# Altium schematic symbol library C.SchLib: 64 symbols (part 1 of 2)
Pins are listed as number, name and electrical type; pins without a type are passive.

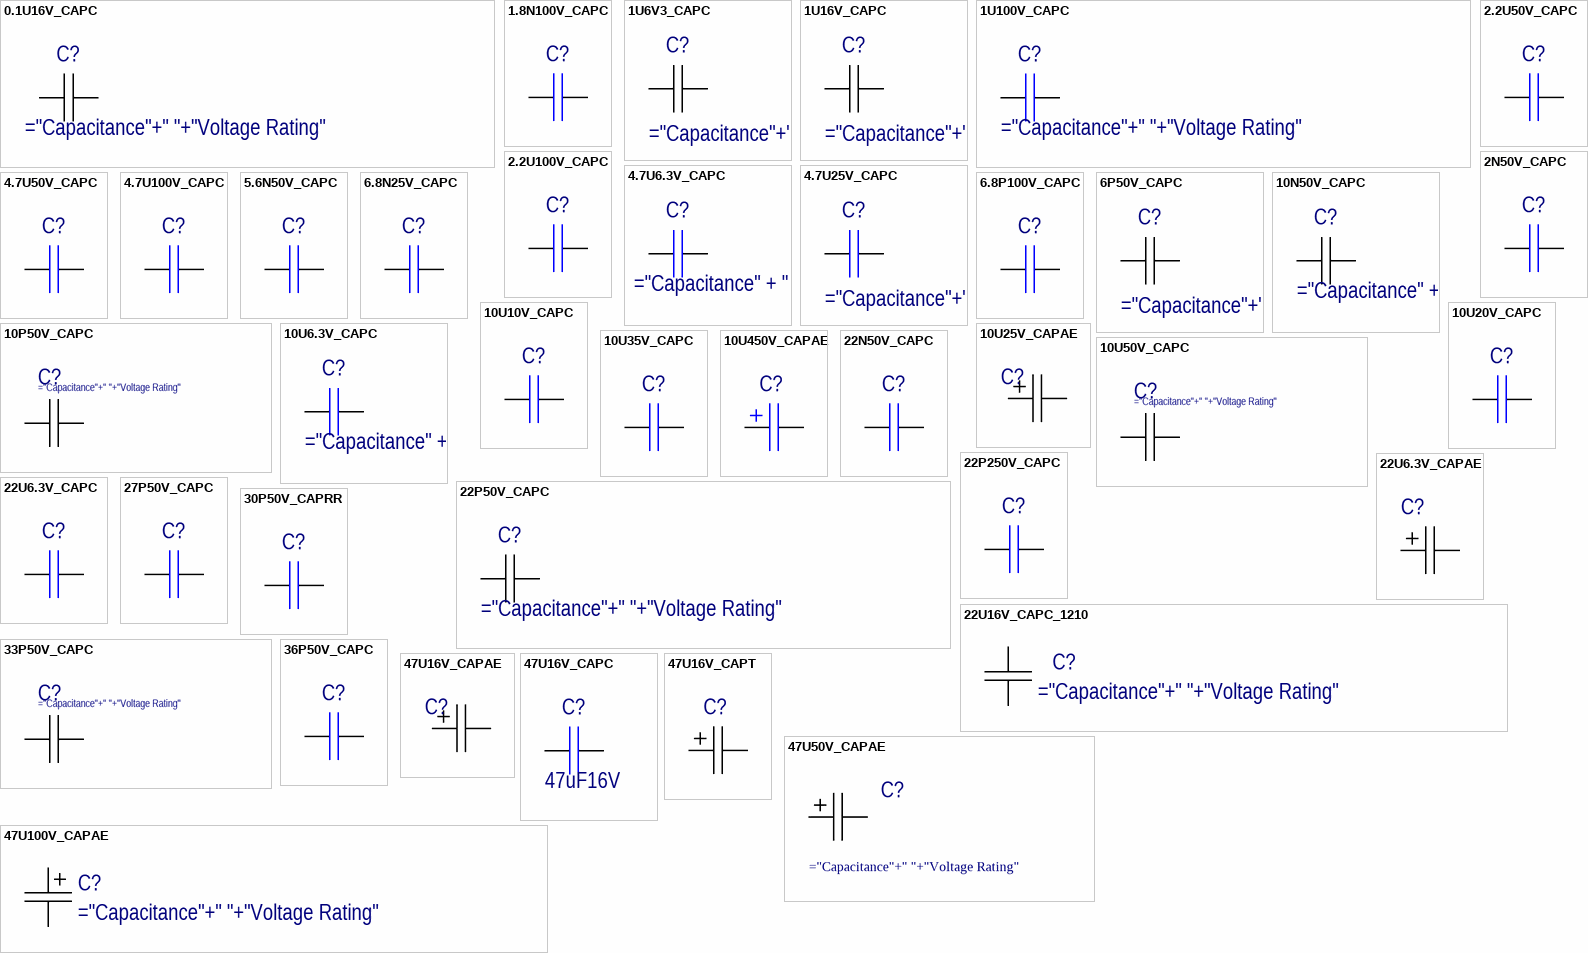
[diagram p0: symbols 0.1U16V_CAPC to 47U100V_CAPAE]

## 0.1U16V_CAPC
designator C?
CAP, MLCC, Y5V, 0.1UF, 16V, 0603; Product Range:C Series; Capacitance:0.1 F; Capacitance Tolerance:+80%, -20%; Dielectric Characteristic:Y5V; Voltage Rating:16V; Ceramic Capacitor Case:0603 [1608 Metric]; Operating Temperature ;RoHS Compliant: Yes; Manufacturer: Kemet; Manufacturer Part Number: C0603C104Z4VACTU; Capacitance: 100nF; Tolerance: 80%; SMD: 1; Supplier 1: Digi-Key; RoHS: Yes; Category: Ceramic Capacitors; Stock 1: 63761; Pricing 1: 1=0,10000, 10=0,03600, 50=0,01980, 100=0,01620, 500=0,01156, 1000=0,00908 (USD); Mount: Surface Mount,PCB; Case/Package: 0603; Number of Pins: 2; Case Code (Imperial): 0603; Case Code (Metric): 1608; Dielectric Material: Ceramic; Min Operating Temperature: -30°C; Max Operating Temperature: 85°C; Packaging: Tape and Reel; Voltage Rating (DC): 16V; Dielectric: Y5V; Package Quantity: 4000; Voltage Rating: 16V; Termination: SMD/SMT; Length: 1.6mm; Width: 0.031inch; Height: 0.8mm; Depth: 0.8mm; Thickness: 0.034inch; Lead Pitch: 0.7mm; Lead Free: Lead Free; REACH SVHC: No SVHC; ComponentLink1URL: http://www.alliedelec.com/m/d/9bfe7773041ffe9d406e68bc7b377fdd.pdf?src-supplier=Allied+Electronics; ComponentLink1Description: http://www.alliedelec.com/m/d/9bfe7773041ffe9d406e68bc7b377fdd.pdf?src-supplier=Allied+Electronics; ComponentLink2URL: http://www.farnell.com/datasheets/2745885.pdf?src-supplier=Farnell; ComponentLink2Description: http://www.farnell.com/datasheets/2745885.pdf?src-supplier=Farnell; ComponentLink3URL: http://components.arrow.com/part/dataview/0323_00314229?src-supplier=Arrow+Europe; ComponentLink3Description: http://components.arrow.com/part/dataview/0323_00314229?src-supplier=Arrow+Europe; ComponentLink4URL: http://components.arrow.com/part/dataview/2088313S2944038N7429?src-supplier=Arrow+Electronics; ComponentLink4Description: http://components.arrow.com/part/dataview/2088313S2944038N7429?src-supplier=Arrow+Electronics; ComponentLink5URL: http://www.jameco.com/Jameco/Products/ProdDS/1565089.pdf?src-supplier=Jameco; ComponentLink5Description: http://www.jameco.com/Jameco/Products/ProdDS/1565089.pdf?src-supplier=Jameco; ComponentLink6URL: http://www.mouser.com/ds/2/212/KEM_C1005_Y5V_SMD-1101305.pdf?src-supplier=Mouser; ComponentLink6Description: http://www.mouser.com/ds/2/212/KEM_C1005_Y5V_SMD-1101305.pdf?src-supplier=Mouser; ComponentLink7URL: http://www.farnell.com/datasheets/2063446.pdf?src-supplier=Element14; ComponentLink7Description: http://www.farnell.com/datasheets/2063446.pdf?src-supplier=Element14; ComponentLink8URL: https://search.kemet.com/component-edge/download/datasheet/C0603C104Z4VACTU.pdf?src-supplier=Digi-Key; ComponentLink8Description: https://search.kemet.com/component-edge/download/datasheet/C0603C104Z4VACTU.pdf?src-supplier=Digi-Key; ComponentLink9URL: https://api.kemet.com/component-edge/download/datasheet/C0603C104Z4VACTU.pdf?src-supplier=Digi-Key; ComponentLink9Description: https://api.kemet.com/component-edge/download/datasheet/C0603C104Z4VACTU.pdf?src-supplier=Digi-Key; ComponentLink10URL: http://capacitoredge.kemet.com/capedge2/DataSheet?pn=C0603C104Z4VACTU&src-supplier=Avnet; ComponentLink10Description: http://capacitoredge.kemet.com/capedge2/DataSheet?pn=C0603C104Z4VACTU&src-supplier=Avnet; ComponentLink11URL: http://www.farnell.com/datasheets/2745885.pdf?src-supplier=Newark; ComponentLink11Description: http://www.farnell.com/datasheets/2745885.pdf?src-supplier=Newark; ComponentLink12URL: http://capacitoredge.kemet.com/capedge2/DataSheet?pn=C0603C104Z4VACTU&src-supplier=Avnet+Europe; ComponentLink12Description: http://capacitoredge.kemet.com/capedge2/DataSheet?pn=C0603C104Z4VACTU&src-supplier=Avnet+Europe; Supplier Part Number 1: 399-1098-1-ND
footprint CAPC1508X09M/0603 (Chip Capacitor, 2-Leads, Body 1,55x0,80mm, IPC Low Density)
pins: 1, 2

## 1.8N100V_CAPC
designator C?
CAP CER 1800PF 100V C0G 0603; Manufacturer: Murata Electronics; Manufacturer Part Number: GRM1885C2A182JA01D; SMD: 1
footprint CAPC1508X09M/0603 (Chip Capacitor, 2-Leads, Body 1,55x0,80mm, IPC Low Density)
pins: 1, 2

## 1U6V3_CAPC
designator C?
CAP CER 1UF 6.3V X5R 10% SMD 0603 85C Paper T/R; Manufacturer: Kyocera AVX; Manufacturer Part Number: 06036D105KAT2A; Insulation Resistance: 100GR; Dissipation Factor: 5%; Supplier 1: Digi-Key; RoHS: Yes; Category: Ceramic Capacitors; Stock 1: 26488; Pricing 1: 1=0,19000, 10=0,13400, 50=0,07620, 100=0,06320, 500=0,04428, 1000=0,03666 (USD); Mount: Surface Mount,PCB; Case/Package: 0603; Number of Pins: 2; Case Code (Metric): 1608; Case Code (Imperial): 0603; Contact Plating: Tin,Matte; Min Operating Temperature: -55°C; Max Operating Temperature: 85°C; Capacitance: 1uF; Tolerance: 10%; Dielectric: X5R; Voltage Rating (DC): 6.3V; Packaging: Tape and Reel; Voltage: 6.3V; Voltage Rating: 6.3V; Package Quantity: 1; Termination: SMD/SMT; Length: 1.6mm; Width: 0.032inch; Height: 0.9mm; Depth: 0.81mm; Thickness: 0.035inch; Radiation Hardening: No; REACH SVHC: No SVHC; Lead Free: Lead Free; ComponentLink1URL: https://datasheet.ciiva.com/11787/0900766b80def1a5-11787046.pdf?src-supplier=RSComponents; ComponentLink1Description: https://datasheet.ciiva.com/11787/0900766b80def1a5-11787046.pdf?src-supplier=RSComponents; ComponentLink2URL: https://datasheet.ciiva.com/1458/84508-1458115.pdf?src-supplier=Element14; ComponentLink2Description: https://datasheet.ciiva.com/1458/84508-1458115.pdf?src-supplier=Element14; ComponentLink3URL: https://datasheet.ciiva.com/1458/84508-1458116.pdf?src-supplier=Element14; ComponentLink3Description: https://datasheet.ciiva.com/1458/84508-1458116.pdf?src-supplier=Element14; ComponentLink4URL: https://datasheet.ciiva.com/2987/cx5r-2987864.pdf?src-supplier=Avnet; ComponentLink4Description: https://datasheet.ciiva.com/2987/cx5r-2987864.pdf?src-supplier=Avnet; ComponentLink5URL: https://datasheet.ciiva.com/150/cx5r-150425.pdf?src-supplier=Digi-Key; ComponentLink5Description: https://datasheet.ciiva.com/150/cx5r-150425.pdf?src-supplier=Digi-Key; ComponentLink6URL: https://datasheet.ciiva.com/150/cx5r-150426.pdf?src-supplier=Digi-Key; ComponentLink6Description: https://datasheet.ciiva.com/150/cx5r-150426.pdf?src-supplier=Digi-Key; ComponentLink7URL: https://datasheet.ciiva.com/5412/cx5r-5412794.pdf?src-supplier=Mouser; ComponentLink7Description: https://datasheet.ciiva.com/5412/cx5r-5412794.pdf?src-supplier=Mouser; ComponentLink8URL: https://datasheet.ciiva.com/14603/70001028-14603850.pdf?src-supplier=Allied+Electronics; ComponentLink8Description: https://datasheet.ciiva.com/14603/70001028-14603850.pdf?src-supplier=Allied+Electronics; ComponentLink9URL: https://datasheet.ciiva.com/150/cx5r-150427.pdf?src-supplier=Digi-Key; ComponentLink9Description: https://datasheet.ciiva.com/150/cx5r-150427.pdf?src-supplier=Digi-Key; ComponentLink10URL: https://datasheet.ciiva.com/7855/1666675-7855100.pdf?src-supplier=Element14; ComponentLink10Description: https://datasheet.ciiva.com/7855/1666675-7855100.pdf?src-supplier=Element14; ComponentLink11URL: https://datasheet.ciiva.com/16326/cx5r-16326991.pdf?src-supplier=Future+Electronics; ComponentLink11Description: https://datasheet.ciiva.com/16326/cx5r-16326991.pdf?src-supplier=Future+Electronics; Supplier Part Number 1: 478-2581-1-ND
footprint CAPC1508X09M/0603 (Chip Capacitor, 2-Leads, Body 1,55x0,80mm, IPC Low Density)
pins: 1, 2

## 1U16V_CAPC
designator C?
CAP CER 1UF 16V X7R 0805; Manufacturer: Samsung; Manufacturer Part Number: CL21B105KOFNNNG; Material: Ceramic; Tolerance: 10%; Supplier 1: Digi-Key; RoHS: Yes; Category: Ceramic Capacitors; Stock 1: 426744; Pricing 1: 1=0,10000, 10=0,05500, 50=0,02980, 100=0,02430, 500=0,01736, 1000=0,01364 (USD); Mount: Surface Mount; Case/Package: 0805; Case Code (Imperial): 0805; Case Code (Metric): 2012; Min Operating Temperature: -55°C; Max Operating Temperature: 125°C; Dielectric: X7R; Package Quantity: 3000; Packaging: Tape and Reel; Capacitance: 1uF; Voltage Rating: 16V; Voltage: 16V; Length: 2mm; Width: 0.049inch; Height: 1.25mm; Thickness: 0.053inch; Depth: 1.25mm; Lead Free: Lead Free; ComponentLink1URL: https://datasheet.ciiva.com/25733/cl21b105kofnnng-25733281.pdf?src-supplier=Digi-Key; ComponentLink1Description: https://datasheet.ciiva.com/25733/cl21b105kofnnng-25733281.pdf?src-supplier=Digi-Key; ComponentLink2URL: https://datasheet.ciiva.com/29199/455935-da-01-en-vs-kondensator-0805-29199047.pdf?src-supplier=Conrad; ComponentLink2Description: https://datasheet.ciiva.com/29199/455935-da-01-en-vs-kondensator-0805-29199047.pdf?src-supplier=Conrad; ComponentLink3URL: https://datasheet.ciiva.com/16428/cl05b104kq5nnnc-16428885.pdf?src-supplier=Future+Electronics; ComponentLink3Description: https://datasheet.ciiva.com/16428/cl05b104kq5nnnc-16428885.pdf?src-supplier=Future+Electronics; ComponentLink4URL: https://datasheet.ciiva.com/26310/mlcc-catalogdownload2013-eng-26310156.pdf?src-supplier=Distrelec; ComponentLink4Description: https://datasheet.ciiva.com/26310/mlcc-catalogdownload2013-eng-26310156.pdf?src-supplier=Distrelec; Supplier Part Number 1: 1276-6471-1-ND
footprint CAPC2012X14M/0805 (Chip Capacitor, 2-Leads, Body 2,00x1,25mm, IPC Low Density)
pins: 1, 2

## 1U100V_CAPC
designator C?
CAP CER 1UF 100V X7R 1206; Manufacturer: Samsung; Manufacturer Part Number: CL31B105KCHNNNE; Tolerance: 10%; Case/Package: 1206; Capacitance: 1uF; Dielectric: X7R; Height: 1.6mm; Max Operating Temperature: 125°C; Min Operating Temperature: -55°C; Voltage Rating: 100V
footprint CAPC3216X14N/1206 (Chip Capacitor, 2-Leads, Body 3,20x1,60mm, IPC Medium Density)
pins: 1, 2

## 2.2U50V_CAPC
designator C?
CAP CER 2.2UF 50V X5R 0603; Manufacturer: Murata Electronics North America; Manufacturer Part Number: GRT188R61H225ME13D; SMD: 1
footprint CAPC1508X09M/0603 (Chip Capacitor, 2-Leads, Body 1,55x0,80mm, IPC Low Density)
pins: 1, 2

## 2.2U100V_CAPC
designator C?
CAP CER 2.2UF 100V X7S 1206; Manufacturer: TDK; Manufacturer Part Number: C3216X7S2A225M160AB; SMD: 1
footprint CAPC3216X14N/1206 (Chip Capacitor, 2-Leads, Body 3,20x1,60mm, IPC Medium Density)
pins: 1, 2

## 2N50V_CAPC
designator C?
CAP CER 2NF 50V X7R 0603; Manufacturer: Murata; Manufacturer Part Number: GRM1885C1H202JA01D; SMD: 1
footprint CAPC1508X09M/0603 (Chip Capacitor, 2-Leads, Body 1,55x0,80mm, IPC Low Density)
pins: 1, 2

## 4.7U6.3V_CAPC
designator C?
CAP CER 4.7UF 6.3V X5R 20% SMD 0603 85C Paper T/R; Manufacturer: Samsung Electro-Mechanics; Manufacturer Part Number: CL10A475MQ8NNNC; SMD: 1; Supplier 1: Digi-Key; RoHS: Yes; Category: Ceramic Capacitors; Stock 1: 160614; Pricing 1: 1=0,10000, 10=0,04700, 50=0,02540, 100=0,02080, 500=0,01482, 1000=0,01165 (USD); Mount: Surface Mount; Case/Package: 0603; Case Code (Metric): 1608; Case Code (Imperial): 0603; Min Operating Temperature: -55°C; Max Operating Temperature: 85°C; Capacitance: 4.7uF; Tolerance: 20%; Dielectric: X5R; Packaging: Tape and Reel; Package Quantity: 4000; Voltage Rating: 6.3V; Voltage Rating (DC): 6.3V; Series: CL; Construction: Flat; Length: 1.6mm; Width: 0.031inch; Height: 0.8mm; Thickness: 0.035inch; Depth: 0.8mm; Radiation Hardening: No; Lead Free: Lead Free; RoHS Compliant: Yes; ComponentLink1URL: https://datasheet.ciiva.com/25713/cl10a475mq8nnnc-25713301.pdf?src-supplier=Digi-Key; ComponentLink1Description: https://datasheet.ciiva.com/25713/cl10a475mq8nnnc-25713301.pdf?src-supplier=Digi-Key; ComponentLink2URL: https://datasheet.ciiva.com/26838/getdatasheetpartid-358407-26838391.pdf?src-supplier=Verical; ComponentLink2Description: https://datasheet.ciiva.com/26838/getdatasheetpartid-358407-26838391.pdf?src-supplier=Verical; ComponentLink3URL: https://datasheet.ciiva.com/16437/cl05b104kq5nnnc-16437323.pdf?src-supplier=Future+Electronics; ComponentLink3Description: https://datasheet.ciiva.com/16437/cl05b104kq5nnnc-16437323.pdf?src-supplier=Future+Electronics; Supplier Part Number 1: 1276-1907-1-ND
footprint CAPC1508X09M/0603 (Chip Capacitor, 2-Leads, Body 1,55x0,80mm, IPC Low Density)
pins: 1, 2

## 4.7U25V_CAPC
designator C?
CAP CER 4.7UF 25V X5R 0603; Manufacturer: Samsung; Manufacturer Part Number: CL10A475KA8NQNC; SMD: 1; Capacitance: 4.7uF; Case Code (Imperial): 0603; Case/Package: 0603; Dielectric: X5R; Max Operating Temperature: 85°C; Min Operating Temperature: -55°C; Mount: Surface Mount; Voltage Rating: 25V
footprint CAPC1508X09M/0603 (Chip Capacitor, 2-Leads, Body 1,55x0,80mm, IPC Low Density)
pins: 1, 2

## 4.7U50V_CAPC
designator C?
CAP CER 4.7UF 50V X5R 0805; Manufacturer: TDK; Manufacturer Part Number: C2012X5R1H475K125AB; SMD: 1
footprint CAPC2012X14M/0805 (Chip Capacitor, 2-Leads, Body 2,00x1,25mm, IPC Low Density)
pins: 1, 2

## 4.7U100V_CAPC
designator C?
CAP CER 4.7UF 100V X7R 1210; Manufacturer: AVX; Manufacturer Part Number: 12101C475K4T2A; SMD: 1
footprint CAPC3225X27M/1210 (Chip Capacitor, 2-Leads, Body 3,20x2,50mm, IPC Low Density)
pins: 1, 2

## 5.6N50V_CAPC
designator C?
CAP CER 5.6NF 50V C0G/NP0 0805; Manufacturer: TDK; Manufacturer Part Number: CGA4C2C0G1H562J060AA; SMD: 1
footprint CAPC2012X14M/0805 (Chip Capacitor, 2-Leads, Body 2,00x1,25mm, IPC Low Density)
pins: 1, 2

## 6.8N25V_CAPC
designator C?
CAP CER 6800PF 25V C0G/NP0 0603; Manufacturer: KEMET; Manufacturer Part Number: C0603C682F3GACTU; SMD: 1
footprint CAPC1508X09M/0603 (Chip Capacitor, 2-Leads, Body 1,55x0,80mm, IPC Low Density)
pins: 1, 2

## 6.8P100V_CAPC
designator C?
CAP CER 6.8PF 100V C0G/NP0 0603; Manufacturer: Yageo; Manufacturer Part Number: CC0603CRNPO0BN6R8; SMD: 1
footprint CAPC1508X09M/0603 (Chip Capacitor, 2-Leads, Body 1,55x0,80mm, IPC Low Density)
pins: 1, 2

## 6P50V_CAPC
designator C?
CAP CER 6PF 50V C0G/NP0 0603; Manufacturer: Samsung Electro-Mechanics; Manufacturer Part Number: CL10C060DB8NNNC; Dielectric: C0G; SMD: 1; Supplier 1: Digi-Key; RoHS: Yes; Category: Ceramic Capacitors; Stock 1: 216890; Pricing 1: 1=0,10000, 10=0,03500, 50=0,01900, 100=0,01560, 500=0,01112, 1000=0,00874 (USD); Mount: Surface Mount; Case/Package: 0603; Case Code (Metric): 1608; Case Code (Imperial): 0603; Min Operating Temperature: -55°C; Max Operating Temperature: 125°C; Capacitance: 6pF; Packaging: Tape and Reel; Voltage Rating: 50V; Length: 1.6mm; Width: 0.031inch; Height: 0.8mm; Thickness: 0.035inch; Depth: 0.8mm; Radiation Hardening: No; Supplier 2: Digi-Key; Supplier Part Number 2: 1276-2134-1-ND
footprint CAPC1508X09M/0603 (Chip Capacitor, 2-Leads, Body 1,55x0,80mm, IPC Low Density)
pins: 1, 2

## 10N50V_CAPC
designator C?
CAP CER 10000PF 50V X7R 0603; Manufacturer: KEMET; Manufacturer Part Number: C0603C103M5RACTU; Dielectric Material: Ceramic; Capacitance: 10nF; Tolerance: 20%; Dissipation Factor: 2.5%; SMD: 1; Supplier 1: Digi-Key; RoHS: Yes; Category: Ceramic Capacitors; Stock 1: 502155; Pricing 1: 1=0,10000, 10=0,03000, 50=0,01640, 100=0,01350, 500=0,00962, 1000=0,00756 (USD); Mount: Surface Mount,PCB; Case/Package: 0603; Number of Pins: 2; Case Code (Imperial): 0603; Case Code (Metric): 1608; Min Operating Temperature: -55°C; Max Operating Temperature: 125°C; Package Quantity: 1; Packaging: Tape and Reel; Voltage Rating: 50V; Voltage Rating (DC): 50V; Dielectric: X7R; Termination: SMD/SMT; Series: C; Construction: Flat; Length: 1.6mm; Width: 0.8mm; Height: 0.8mm; Lead Pitch: 0.7mm; Thickness: 0.034inch; Depth: 0.8mm; Radiation Hardening: No; REACH SVHC: No SVHC; RoHS Compliant: Yes; ComponentLink1URL: https://datasheet.ciiva.com/7823/kem-c1002-x7r-smd-7823979.pdf?src-supplier=Element14; ComponentLink1Description: https://datasheet.ciiva.com/7823/kem-c1002-x7r-smd-7823979.pdf?src-supplier=Element14; ComponentLink2URL: https://datasheet.ciiva.com/7823/kem-c1002-x7r-smd-7823980.pdf?src-supplier=Element14; ComponentLink2Description: https://datasheet.ciiva.com/7823/kem-c1002-x7r-smd-7823980.pdf?src-supplier=Element14; Supplier Part Number 1: 399-7842-1-ND
footprint CAPC1508X09M/0603 (Chip Capacitor, 2-Leads, Body 1,55x0,80mm, IPC Low Density)
pins: 1, 2

## 10P50V_CAPC
designator C?
CAP CER 10PF 50V C0G/NP0 0603; Manufacturer: Wurth Electronics; Manufacturer Part Number: 885012006051; Dielectric: C0G; Tolerance: 5%; Supplier 1: Digi-Key; RoHS: Yes; Category: Ceramic Capacitors; Stock 1: 5933; Pricing 1: 1=0,10000, 10=0,02600, 100=0,02330, 500=0,02060 (USD); Mount: Surface Mount; Case/Package: 0603; Case Code (Metric): 1608; Case Code (Imperial): 0603; Min Operating Temperature: -55°C; Max Operating Temperature: 125°C; Packaging: Cut Tape; Capacitance: 10pF; Voltage Rating: 50V; Voltage Rating (DC): 50V; Length: 0.063inch; Width: 0.031inch; Thickness: 0.034inch; REACH SVHC: Unknown; RoHS Compliant: Yes; ComponentLink1URL: http://www.farnell.com/datasheets/1958434.pdf?src-supplier=Farnell; ComponentLink1Description: http://www.farnell.com/datasheets/1958434.pdf?src-supplier=Farnell; ComponentLink2URL: http://www.farnell.com/datasheets/1958434.pdf?src-supplier=Element14; ComponentLink2Description: http://www.farnell.com/datasheets/1958434.pdf?src-supplier=Element14; ComponentLink3URL: https://katalog.we-online.de/pbs/datasheet/885012006051.pdf?src-supplier=Digi-Key; ComponentLink3Description: https://katalog.we-online.de/pbs/datasheet/885012006051.pdf?src-supplier=Digi-Key; ComponentLink4URL: http://www.farnell.com/datasheets/1958434.pdf?src-supplier=Newark; ComponentLink4Description: http://www.farnell.com/datasheets/1958434.pdf?src-supplier=Newark; Supplier Part Number 1: 732-7793-1-ND
footprint CAPC1508X09M/0603 (Chip Capacitor, 2-Leads, Body 1,55x0,80mm, IPC Low Density)
pins: 1, 2

## 10U6.3V_CAPC
designator C?
CAP CER 10UF 6.3V X5R 0603; Manufacturer: Murata Electronics; Manufacturer Part Number: GRM188R60J106KE47D; Material: Ceramic; Tolerance: 10%; SMD: 1; Supplier 1: Digi-Key; RoHS: Yes; Category: Ceramic Capacitors; Stock 1: 97709; Pricing 1: 1=0,20000, 10=0,13900, 50=0,07920, 100=0,06560, 500=0,04596, 1000=0,03805 (USD); Mount: Surface Mount; Case/Package: 0603; Case Code (Metric): 1608; Case Code (Imperial): 0603; Weight: 0.000222oz; Min Operating Temperature: -55°C; Max Operating Temperature: 85°C; Packaging: Tape and Reel; Dielectric: X5R; Capacitance: 10uF; Voltage Rating: 6.3V; Termination: SMD/SMT; Voltage Rating (DC): 6.3V; Package Quantity: 4000; Length: 1.6mm; Width: 0.031inch; Height: 0.8mm; Thickness: 0.035inch; Depth: 0.8mm; REACH SVHC: No SVHC; RoHS Compliant: Yes; ComponentLink1URL: http://components.arrow.com/part/dataview/0323_06977919?src-supplier=Arrow+Europe; ComponentLink1Description: http://components.arrow.com/part/dataview/0323_06977919?src-supplier=Arrow+Europe; ComponentLink2URL: http://www.farnell.com/datasheets/1955679.pdf?src-supplier=Farnell; ComponentLink2Description: http://www.farnell.com/datasheets/1955679.pdf?src-supplier=Farnell; ComponentLink3URL: http://www.mouser.com/ds/2/281/c02e-2905.pdf?src-supplier=Mouser; ComponentLink3Description: http://www.mouser.com/ds/2/281/c02e-2905.pdf?src-supplier=Mouser; ComponentLink4URL: http://search.murata.co.jp/Ceramy/image/img/A01X/G101/ENG/GRM188R60J106KE47-02.pdf?src-supplier=Digi-Key; ComponentLink4Description: http://search.murata.co.jp/Ceramy/image/img/A01X/G101/ENG/GRM188R60J106KE47-02.pdf?src-supplier=Digi-Key; ComponentLink5URL: http://www.farnell.com/datasheets/1955679.pdf?src-supplier=Newark; ComponentLink5Description: http://www.farnell.com/datasheets/1955679.pdf?src-supplier=Newark; ComponentLink6URL: http://www.farnell.com/datasheets/1955679.pdf?src-supplier=Element14; ComponentLink6Description: http://www.farnell.com/datasheets/1955679.pdf?src-supplier=Element14; ComponentLink7URL: http://psearch.en.murata.com/capacitor/product/GRM188R60J106KE47%23.pdf?src-supplier=Avnet; ComponentLink7Description: http://psearch.en.murata.com/capacitor/product/GRM188R60J106KE47%23.pdf?src-supplier=Avnet; Supplier Part Number 1: 490-12538-1-ND
footprint CAPC1508X09M/0603 (Chip Capacitor, 2-Leads, Body 1,55x0,80mm, IPC Low Density)
pins: 1, 2

## 10U10V_CAPC
designator C?
CAP CER 10UF 10V X5R 0805; Manufacturer: Samsung Electro-Mechanics; Manufacturer Part Number: CL21A106KPFNNNG; SMD: 1
footprint CAPC2012X14M/0805 (Chip Capacitor, 2-Leads, Body 2,00x1,25mm, IPC Low Density)
pins: 1, 2

## 10U20V_CAPC
designator C?
CAP CER 10UF 20V X5R 0805; Manufacturer: Murata Electronics North America; Manufacturer Part Number: GRM21BR61D106ME15L; SMD: 1
footprint CAPC2012X14M/0805 (Chip Capacitor, 2-Leads, Body 2,00x1,25mm, IPC Low Density)
pins: 1, 2

## 10U25V_CAPAE
designator C?
CAP ALUM 10UF 20% 25V RADIAL; Manufacturer: Panasonic; Manufacturer Part Number: ECA-1EM100B; TH: 1
footprint CAPAE500X1200
pins: 1, 2

## 10U35V_CAPC
designator C?
CAP CER 10UF 35V X6S 1206; Manufacturer: TDK; Manufacturer Part Number: C3216X6S1V106K160AC; SMD: 1
footprint CAPC3216X14N/1206 (Chip Capacitor, 2-Leads, Body 3,20x1,60mm, IPC Medium Density)
pins: 1, 2

## 10U50V_CAPC
designator C?
CAP CER 10UF 50V X5R 1206; Manufacturer: Samsung; Manufacturer Part Number: CL31A106KBHNNNE; Material: Ceramic; Tolerance: 10%; Supplier 1: Digi-Key; RoHS: Yes; Category: Ceramic Capacitors; Stock 1: 1868910; Pricing 1: 1=0,34000, 10=0,23500, 50=0,16460, 100=0,14100, 500=0,10578, 1000=0,08933 (USD); Mount: Surface Mount; Case/Package: 1206; Case Code (Metric): 3216; Case Code (Imperial): 1206; Contact Plating: Tin; Min Operating Temperature: -55°C; Max Operating Temperature: 85°C; Capacitance: 10uF; Package Quantity: 1; Packaging: Tape and Reel; Voltage Rating: 50V; Dielectric: X5R; Voltage Rating (DC): 50V; Series: CL; Construction: Flat; Length: 3.2mm; Width: 0.063inch; Height: 1.6mm; Thickness: 0.071inch; Depth: 1.6mm; Radiation Hardening: No; Lead Free: Lead Free; RoHS Compliant: Yes; ComponentLink1URL: https://datasheet.ciiva.com/25726/cl31a106kbhnnne-25726404.pdf?src-supplier=Digi-Key; ComponentLink1Description: https://datasheet.ciiva.com/25726/cl31a106kbhnnne-25726404.pdf?src-supplier=Digi-Key; ComponentLink2URL: https://datasheet.ciiva.com/15216/getdatasheetpartid-353196-15216238.pdf?src-supplier=Verical; ComponentLink2Description: https://datasheet.ciiva.com/15216/getdatasheetpartid-353196-15216238.pdf?src-supplier=Verical; ComponentLink3URL: https://datasheet.ciiva.com/29201/452492-da-01-en-vs-kondensator-1206-29201107.pdf?src-supplier=Conrad; ComponentLink3Description: https://datasheet.ciiva.com/29201/452492-da-01-en-vs-kondensator-1206-29201107.pdf?src-supplier=Conrad; ComponentLink4URL: https://datasheet.ciiva.com/16437/cl05b104kq5nnnc-16437222.pdf?src-supplier=Future+Electronics; ComponentLink4Description: https://datasheet.ciiva.com/16437/cl05b104kq5nnnc-16437222.pdf?src-supplier=Future+Electronics; ComponentLink5URL: https://datasheet.ciiva.com/20173/71-0881-20173082.pdf?src-supplier=Rapid+Electronics; ComponentLink5Description: https://datasheet.ciiva.com/20173/71-0881-20173082.pdf?src-supplier=Rapid+Electronics; Supplier Part Number 1: 1276-2876-1-ND
footprint CAPC3216X14N/1206 (Chip Capacitor, 2-Leads, Body 3,20x1,60mm, IPC Medium Density)
pins: 1, 2

## 10U450V_CAPAE
designator C?
CAP ALUM 10UF 20% 450V T/H; Manufacturer: Rubycon; Manufacturer Part Number: 450BXW10MEFR10X16; SMD: 1
footprint CAPAE1000X1800
pins: 1, 2

## 22N50V_CAPC
designator C?
CAP CER 0.022UF 50V X7R 0603; Manufacturer: Samsung Electro-Mechanics; Manufacturer Part Number: CL10B223KB8NNND; SMD: 1
footprint CAPC1508X09M/0603 (Chip Capacitor, 2-Leads, Body 1,55x0,80mm, IPC Low Density)
pins: 1, 2

## 22P50V_CAPC
designator C?
CAP CER 22PF 50V NPO 0603; Manufacturer: Yageo; Manufacturer Part Number: AC0603JRNPO9BN220; Tolerance: 5%; SMD: 1; Supplier 1: Digi-Key; RoHS: No; Category: Ceramic Capacitors; Stock 1: 109611; Pricing 1: 1=0,11000, 10=0,07800, 50=0,04260, 100=0,03480, 500=0,02488, 1000=0,01955 (USD); Mount: Surface Mount; Case/Package: 0603; Case Code (Imperial): 0603; Case Code (Metric): 1608; Min Operating Temperature: -55°C; Max Operating Temperature: 125°C; Packaging: Cut Tape; Capacitance: 22pF; Voltage Rating: 50V; Ratings: AEC-Q200; ComponentLink1URL: http://www.yageo.com/NewPortal/_en/search/productDocs.jsp?YageoPartNumber=AC0603JRNPO9BN220&src-supplier=Digi-Key; ComponentLink1Description: http://www.yageo.com/NewPortal/_en/search/productDocs.jsp?YageoPartNumber=AC0603JRNPO9BN220&src-supplier=Digi-Key; Supplier Part Number 1: 311-3090-1-ND
footprint CAPC1508X09M/0603 (Chip Capacitor, 2-Leads, Body 1,55x0,80mm, IPC Low Density)
pins: 1, 2

## 22P250V_CAPC
designator C?
CAP CER 22PF 250V C0G/NP0 0805; Manufacturer: Murata Manufacturing; Manufacturer Part Number: GRM21A5C2E220JW01; SMD: 1
footprint CAPC2012X14M/0805 (Chip Capacitor, 2-Leads, Body 2,00x1,25mm, IPC Low Density)
pins: 1, 2

## 22U6.3V_CAPAE
designator C?
CAP ALUM 22UF 20% 6.3V RADIAL; Manufacturer: Rubycon; Manufacturer Part Number: 6.3TWL22MEFC4X7; TH: 1
footprint CAPAE400X800
pins: 1, 2

## 22U6.3V_CAPC
designator C?
CAP CER 22UF 6.3V X5R 0603; Manufacturer: Murata Electronics North America; Manufacturer Part Number: GRM188R60J226MEA0J; SMD: 1
footprint CAPC1508X09M/0603 (Chip Capacitor, 2-Leads, Body 1,55x0,80mm, IPC Low Density)
pins: 1, 2

## 22U16V_CAPC_1210
designator C?
CAP CER 22UF 16V X5R 1210; Manufacturer: Samsung; Manufacturer Part Number: CL32A226MOJNNNE; Tolerance: 20%; Supplier 1: Digi-Key; RoHS: Yes; Category: Ceramic Capacitors; Stock 1: 47696; Pricing 1: 1=0,37000, 10=0,25700, 50=0,18000, 100=0,15430, 500=0,11570 (USD); Mount: Surface Mount; Case/Package: 1210; Case Code (Metric): 3225; Case Code (Imperial): 1210; Min Operating Temperature: -55°C; Max Operating Temperature: 85°C; Capacitance: 22uF; Dielectric: X5R; Packaging: Tape and Reel; Voltage Rating: 16V; Voltage Rating (DC): 16V; Series: CL; Construction: Flat; Length: 3.2mm; Width: 0.098inch; Height: 2.5mm; Thickness: 0.106inch; Depth: 2.5mm; Radiation Hardening: No; Lead Free: Lead Free; RoHS Compliant: Yes; ComponentLink1URL: https://datasheet.ciiva.com/26947/getdatasheetpartid-355241-26947026.pdf?src-supplier=Verical; ComponentLink1Description: https://datasheet.ciiva.com/26947/getdatasheetpartid-355241-26947026.pdf?src-supplier=Verical; ComponentLink2URL: https://datasheet.ciiva.com/25711/cl32a226mojnnne-25711415.pdf?src-supplier=Digi-Key; ComponentLink2Description: https://datasheet.ciiva.com/25711/cl32a226mojnnne-25711415.pdf?src-supplier=Digi-Key; ComponentLink3URL: https://datasheet.ciiva.com/16374/cl05b104kq5nnnc-16374666.pdf?src-supplier=Future+Electronics; ComponentLink3Description: https://datasheet.ciiva.com/16374/cl05b104kq5nnnc-16374666.pdf?src-supplier=Future+Electronics; Supplier Part Number 1: 1276-1851-1-ND
footprint CAPC3225X27M/1210 (Chip Capacitor, 2-Leads, Body 3,20x2,50mm, IPC Low Density)
pins: 1, 2

## 27P50V_CAPC
designator C?
CAP CER 27PF 50V C0G/NP0 0603; Manufacturer: AVX; Manufacturer Part Number: 06035A270JAT2A; SMD: 1
footprint CAPC1508X09M/0603 (Chip Capacitor, 2-Leads, Body 1,55x0,80mm, IPC Low Density)
pins: 1, 2

## 30P50V_CAPRR
designator C?
CAP CER 30PF 50V C0G/NP0 RADIAL; Manufacturer: Vishay BCcomponents; Manufacturer Part Number: K300J10C0GF5UH5; TH: 1
footprint CAPRR500W50L400T260H400
pins: 1, 2

## 33P50V_CAPC
designator C?
CAP CER 33PF 50V NPO 0603; Manufacturer: Yageo; Manufacturer Part Number: CC0603KRNPO9BN330; Tolerance: 10%; Dielectric: C0G; Supplier 1: Digi-Key; RoHS: Yes; Category: Ceramic Capacitors; Stock 1: 1027; Pricing 1: 1=0,10000, 10=0,05600, 50=0,03040, 100=0,02480, 500=0,01774, 1000=0,01395 (USD); Mount: Surface Mount; Case/Package: 0603; Case Code (Imperial): 0603; Case Code (Metric): 1608; Weight: 7.1E-05oz; Min Operating Temperature: -55°C; Max Operating Temperature: 125°C; Capacitance: 33pF; Voltage Rating (DC): 50V; Packaging: Tape and Reel; Voltage Rating: 50V; Termination: SMD/SMT; Resistor Type: Ceramic; Series: CC; Length: 0.063inch; Width: 0.031inch; Thickness: 0.035inch; RoHS Compliant: Yes; ComponentLink1URL: https://datasheet.ciiva.com/13209/upy-gp-np0-16v-to-50v-8-13209399.pdf?src-supplier=Mouser; ComponentLink1Description: https://datasheet.ciiva.com/13209/upy-gp-np0-16v-to-50v-8-13209399.pdf?src-supplier=Mouser; Supplier Part Number 1: 311-4034-1-ND
footprint CAPC1508X09M/0603 (Chip Capacitor, 2-Leads, Body 1,55x0,80mm, IPC Low Density)
pins: 1, 2

## 36P50V_CAPC
designator C?
CAP CER 36PF 50V NPO 0805; Manufacturer: Yageo; Manufacturer Part Number: CC0805JRNPO9BN360; SMD: 1
footprint CAPC2012X14M/0805 (Chip Capacitor, 2-Leads, Body 2,00x1,25mm, IPC Low Density)
pins: 1, 2

## 47U16V_CAPAE
designator C?
CAP ALUM 47UF 20% 16V RADIAL; Manufacturer: Panasonic; Manufacturer Part Number: ECA1CHG470; TH: 1
footprint CAPAE500X1100
pins: 1, 2

## 47U16V_CAPC
designator C?, comment 47uF16V
CAP CER 47UF 16V X5R 1210; Manufacturer: Samsung; Manufacturer Part Number: CL32A476KOJNNNE; Tolerance: 10%; SMD: 1; Capacitance: 47uF; Case Code (Imperial): 1210; Case/Package: 1210; Dielectric: X5R; Max Operating Temperature: 85°C; Min Operating Temperature: -55°C; Mount: Surface Mount; Voltage Rating: 16V; Voltage Rating (DC): 16V
footprint RESC3225X07N/1210 (Chip Resistor, 2-Leads, Body 3,20x2,49mm, IPC Medium Density)
pins: 1, 2

## 47U16V_CAPT
designator C?
CAP TANT 47UF 20% 16V 2917; Manufacturer: AVX Corporation; Manufacturer Part Number: TAJD476M016RNJV; TH: 1
footprint CAPMP7343X31M/2917 (Molded Capacitor, 2-Leads, Body 7,30x4,30mm, IPC Low Density)
pins: 1, 2

## 47U50V_CAPAE
designator C?
CAP ALUM 47UF 20% 50V RADIAL; Manufacturer: KEMET; Manufacturer Part Number: ESE476M050AE3DA; TH: 1; Supplier 1: Digi-Key; RoHS: Yes; Category: Aluminum Electrolytic Capacitors; Stock 1: 5990; Pricing 1: 1=0,25000, 10=0,17200, 50=0,10340, 100=0,08740, 500=0,05978, 1000=0,05288, 2500=0,05058, 5000=0,04598 (USD); Case/Package: Aluminum; Max Operating Temperature: 105°C; Capacitance: 47uF; Package Quantity: 2000; Voltage Rating: 50V; Voltage Rating (DC): 50V; Tolerance: 20%; Packaging: Ammo Pack; Termination: Radial; Series: ESE; Length: 11mm; Lead Pitch: 5mm; RoHS Compliant: Yes; ComponentLink1URL: http://www.kemet.com/docfinder?Partnumber=ESE476M050AE3DA&src-supplier=Mouser; ComponentLink1Description: http://www.kemet.com/docfinder?Partnumber=ESE476M050AE3DA&src-supplier=Mouser; Supplier Part Number 1: 399-ESE476M050AE3DA-ND; Parameter 1: *
footprint CAPAE6.3X12.5 (CAP ALUM RADIAL DIA 6.3MM HEIGHT 12.5MM PITCH 2.5MM)
pins: 1, 2

## 47U100V_CAPAE
designator C?
CAP ALUM 47UF 100V 20% (8 X 11.5mm) Radial 3.5mm 185mA 1000h 105C Bulk; Manufacturer Part Number: 100PX47MEFC8X11.5; Manufacturer: Rubycon; Dielectric Material: Aluminium; Life (Hours): 1000Hour; Ripple Current: 140mA; Dissipation Factor: 0.08%; Leakage Current: 141uA; Lead Diameter: 0.6mm; Polarity: Polar; Supplier 1: Digi-Key; RoHS: Yes; Category: Aluminum Electrolytic Capacitors; Stock 1: 7466; Pricing 1: 1=0,44000, 10=0,31000, 50=0,23460, 100=0,20440, 500=0,15140, 1000=0,12869, 2500=0,12112, 5000=0,11355 (USD); Mount: Through Hole,PCB; Case/Package: Radial; Number of Pins: 2; Min Operating Temperature: -55°C; Max Operating Temperature: 105°C; Capacitance: 47uF; Voltage Rating: 100V; Tolerance: 20%; Voltage Rating (DC): 100V; Package Quantity: 200; Packaging: Bulk; Termination: Radial; Voltage: 100V; Diameter: 8mm; Length: 11.5mm; Height: 11.5mm; Lead Pitch: 0.138inch; Height - Seated (Max): 0.512inch; Lead Free: Lead Free; ComponentLink1URL: https://datasheet.ciiva.com/41751/445060-da-01-en-radial-elko-vy-47uf-100-v-41751055.pdf?src-supplier=Conrad; ComponentLink1Description: https://datasheet.ciiva.com/41751/445060-da-01-en-radial-elko-vy-47uf-100-v-41751055.pdf?src-supplier=Conrad; ComponentLink2URL: https://datasheet.ciiva.com/5329/e-vy-11346-5329225.pdf?src-supplier=Mouser; ComponentLink2Description: https://datasheet.ciiva.com/5329/e-vy-11346-5329225.pdf?src-supplier=Mouser; ComponentLink3URL: https://datasheet.ciiva.com/16225/e-vy-16225910.pdf?src-supplier=Future+Electronics; ComponentLink3Description: https://datasheet.ciiva.com/16225/e-vy-16225910.pdf?src-supplier=Future+Electronics; ComponentLink4URL: https://datasheet.ciiva.com/14607/70188007-14607594.pdf?src-supplier=Allied+Electronics; ComponentLink4Description: https://datasheet.ciiva.com/14607/70188007-14607594.pdf?src-supplier=Allied+Electronics; ComponentLink5URL: https://datasheet.ciiva.com/111/e-vy-111435.pdf?src-supplier=Digi-Key; ComponentLink5Description: https://datasheet.ciiva.com/111/e-vy-111435.pdf?src-supplier=Digi-Key; Supplier Part Number 1: 493-16184-ND; Supplier 2: Digi-Key; Pricing 2: 1=0,40000, 10=0,28100, 50=0,19640, 100=0,16830, 500=0,12622, 1000=0,10659, 2500=0,10098, 5000=0,09537 (USD); Ripple Current (AC): 185mA; REACH SVHC: No SVHC; ComponentLink6URL: https://datasheet.ciiva.com/22732/1909360-22732294.pdf?src-supplier=Element14; ComponentLink6Description: https://datasheet.ciiva.com/22732/1909360-22732294.pdf?src-supplier=Element14; ComponentLink7URL: http://datasheet.octopart.com/100PX47MEFC8X11.5-Rubycon-datasheet-12529491.pdf?src-supplier=Element14; ComponentLink7Description: http://datasheet.octopart.com/100PX47MEFC8X11.5-Rubycon-datasheet-12529491.pdf?src-supplier=Element14; ComponentLink8URL: http://datasheet.octopart.com/100PX47MEFC8X11.5-Rubycon-datasheet-41169268.pdf?src-supplier=Newark; ComponentLink8Description: http://datasheet.octopart.com/100PX47MEFC8X11.5-Rubycon-datasheet-41169268.pdf?src-supplier=Newark; ComponentLink9URL: http://datasheet.octopart.com/100PX47MEFC8X11.5-Rubycon-datasheet-86451557.pdf?src-supplier=Farnell; ComponentLink9Description: http://datasheet.octopart.com/100PX47MEFC8X11.5-Rubycon-datasheet-86451557.pdf?src-supplier=Farnell; Supplier Part Number 2: 1189-1004-ND
footprint CAPAE8X11.5 (CAP ALUM RADIAL DIA 8MM HEIGHT 11.5MM PITCH 3.5MM)
pins: 1, 2

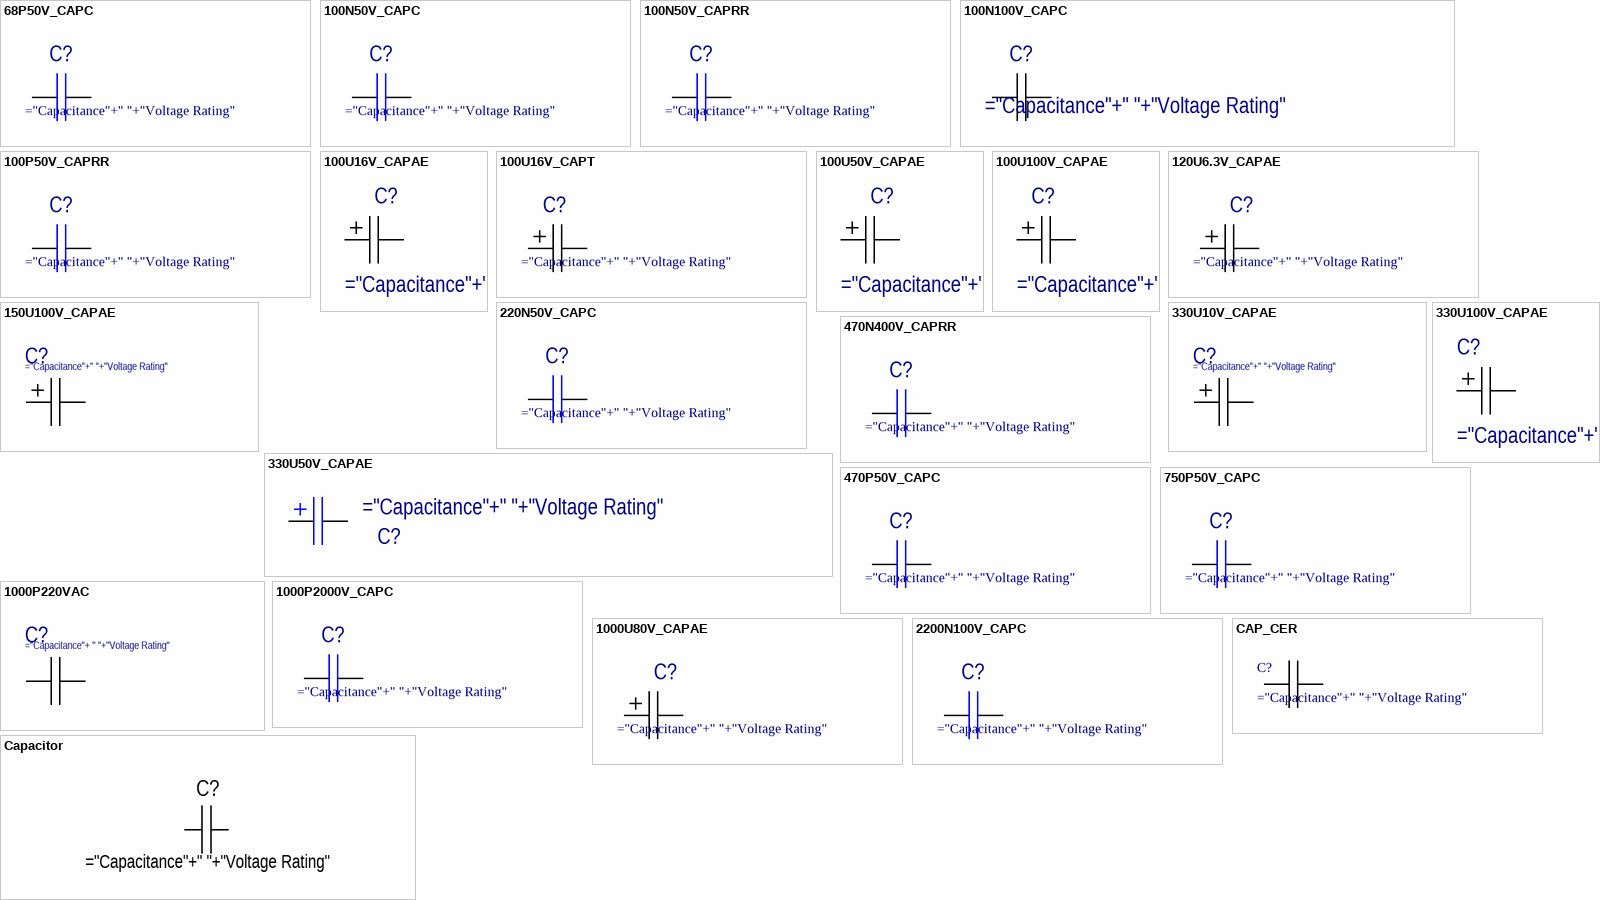
[diagram p1: symbols 68P50V_CAPC to Capacitor]

## 68P50V_CAPC
designator C?
CAP CER 68PF 16V C0G/NP0 0603; Manufacturer: Murata; Manufacturer Part Number: GRM1885C1H680JA01D; SMD: 1
footprint CAPC1508X09M/0603 (Chip Capacitor, 2-Leads, Body 1,55x0,80mm, IPC Low Density)
pins: 1, 2

## 100N50V_CAPC
designator C?
CAP CER 0.1UF 50V Y5V 0805; Manufacturer: Samsung Electro-Mechanics; Manufacturer Part Number: CL21F104ZBCNNNC; SMD: 1
footprint CAPC2012X14M/0805 (Chip Capacitor, 2-Leads, Body 2,00x1,25mm, IPC Low Density)
pins: 1, 2

## 100N50V_CAPRR
designator C?
CAP CER 0.1UF 50V X7R RADIAL; Manufacturer: Vishay BC Components; Manufacturer Part Number: K104K15X7RF5TH5; TH: 1
footprint CAPRR500W50L400T260H400
pins: 1, 2

## 100N100V_CAPC
designator C?
CAP CER 0.1UF 100V X7R 0603; Manufacturer: Samsung Electro-Mechanics; Manufacturer Part Number: CL10B104KC8NNNC; Capacitance: 100nF; Tolerance: 10%; SMD: 1; Supplier 1: Avnet; RoHS: Yes; Category: Ceramic Capacitors; Stock 1: 108000; Pricing 1: 4000=0,01370, 8000=0,01173, 16000=0,01172, 24000=0,01073, 32000=0,01071, 40000=0,01070, 400000=0,01068 (USD); Mount: Surface Mount; Case/Package: 0603; Case Code (Metric): 1608; Case Code (Imperial): 0603; Min Operating Temperature: -55°C; Max Operating Temperature: 125°C; Packaging: Cut Tape; Voltage Rating: 100V; Series: CL; Length: 0.063inch; Width: 0.031inch; Thickness: 0.035inch; RoHS Compliant: Yes; ComponentLink1URL: http://www.farnell.com/datasheets/2710684.pdf?src-supplier=Farnell; ComponentLink1Description: http://www.farnell.com/datasheets/2710684.pdf?src-supplier=Farnell; ComponentLink2URL: http://www.samsungsem.com/kr/support/product-search/mlcc/CL10B104KC8NNNC.jsp?src-supplier=Digi-Key; ComponentLink2Description: http://www.samsungsem.com/kr/support/product-search/mlcc/CL10B104KC8NNNC.jsp?src-supplier=Digi-Key; ComponentLink3URL: http://www.farnell.com/datasheets/2710684.pdf?src-supplier=Newark; ComponentLink3Description: http://www.farnell.com/datasheets/2710684.pdf?src-supplier=Newark; ComponentLink4URL: http://www.farnell.com/datasheets/2710684.pdf?src-supplier=Element14; ComponentLink4Description: http://www.farnell.com/datasheets/2710684.pdf?src-supplier=Element14; ComponentLink5URL: https://www.verical.com/server-webapp/html/getDatasheet?partID=780284&src-supplier=Verical; ComponentLink5Description: https://www.verical.com/server-webapp/html/getDatasheet?partID=780284&src-supplier=Verical; Supplier Part Number 1: CL10B104KC8NNNC
footprint CAPC1508X09M/0603 (Chip Capacitor, 2-Leads, Body 1,55x0,80mm, IPC Low Density)
pins: 1, 2

## 100P50V_CAPRR
designator C?
CAP CER 100PF 50V C0G/NP0 RADIAL; Manufacturer: Vishay BCcomponents; Manufacturer Part Number: K101J10C0GF5UH5; TH: 1
footprint CAPRR500W50L400T260H400
pins: 1, 2

## 100U16V_CAPAE
designator C?
CAP ALUM 100UF 20% 16V RADIAL; Manufacturer: Panasonic; Manufacturer Part Number: ECA1CHG101; Life (Hours): 1000Hour; Ripple Current: 110mA; Tolerance: 20%; Voltage: 16V; Voltage Rating: 16V; Voltage Rating (DC): 16V; Length: 11mm; Capacitance: 100uF; Diameter: 5mm; Max Operating Temperature: 105°C; Min Operating Temperature: -55°C; Ripple Current (AC): 110mA
footprint CAPAE5X11 (CAP ALUM RADIAL DIA 5MM HEIGHT 11MM PITCH 2MM)
pins: 1, 2

## 100U16V_CAPT
designator C?
TANTALUM CAPACITOR, 100UF, 16V, 0.6 OHM, 0.2, 2917, FULL REEL; Product Range:TAJ Series; Capacitance:100 F; Capacitance Tolerance: 20%; Voltage Rating:16V; Tantalum Capacitor Case:2917 [7343 Metric]; Manufacturer Size Code:D ;RoHS Compliant: Yes; Manufacturer: AVX Corporation; Manufacturer Part Number: TAJD107M016RNJ; TH: 1; ESR (Equivalent Series Resistance): 600mR; Leakage Current: 16uA; Dissipation Factor: 6%; Polarity: Polar; Supplier 1: Digi-Key; RoHS: Yes; Category: Tantalum Capacitors; Stock 1: 1896; Pricing 1: 1=0,81000, 10=0,59800, 50=0,47800, 100=0,40970 (USD); Mount: Surface Mount,PCB; Case/Package: 2917; Number of Pins: 2; Case Code (Metric): 7343; Case Code (Imperial): 2917; Dielectric Material: Tantalum; Min Operating Temperature: -55°C; Max Operating Temperature: 125°C; Capacitance: 100uF; Tolerance: 20%; Packaging: Tape and Reel; Voltage Rating: 16V; Termination: SMD/SMT; Series: TAJ; Package Quantity: 1; Voltage Rating (DC): 16V; Voltage: 16V; Features: General Purpose; Construction: Flat; Length: 7.3mm; Width: 0.169inch; Height: 2.9mm; Depth: 4.3mm; Height - Seated (Max): 0.122inch; Lead Pitch: 4.4mm; Radiation Hardening: No; RoHS Compliant: Yes; REACH SVHC: No SVHC; Lead Free: Lead Free; ComponentLink1URL: https://datasheet.ciiva.com/3004/taj-3004517.pdf?src-supplier=Avnet; ComponentLink1Description: https://datasheet.ciiva.com/3004/taj-3004517.pdf?src-supplier=Avnet; ComponentLink2URL: https://datasheet.ciiva.com/3004/taj-3004518.pdf?src-supplier=Avnet; ComponentLink2Description: https://datasheet.ciiva.com/3004/taj-3004518.pdf?src-supplier=Avnet; ComponentLink3URL: https://datasheet.ciiva.com/264/taj-264343.pdf?src-supplier=Digi-Key; ComponentLink3Description: https://datasheet.ciiva.com/264/taj-264343.pdf?src-supplier=Digi-Key; ComponentLink4URL: https://datasheet.ciiva.com/264/taj-264344.pdf?src-supplier=Digi-Key; ComponentLink4Description: https://datasheet.ciiva.com/264/taj-264344.pdf?src-supplier=Digi-Key; ComponentLink5URL: https://datasheet.ciiva.com/7720/49917-7720632.pdf?src-supplier=Element14; ComponentLink5Description: https://datasheet.ciiva.com/7720/49917-7720632.pdf?src-supplier=Element14; ComponentLink6URL: https://datasheet.ciiva.com/16200/taj-16200632.pdf?src-supplier=Future+Electronics; ComponentLink6Description: https://datasheet.ciiva.com/16200/taj-16200632.pdf?src-supplier=Future+Electronics; ComponentLink7URL: https://datasheet.ciiva.com/264/taj-264345.pdf?src-supplier=Digi-Key; ComponentLink7Description: https://datasheet.ciiva.com/264/taj-264345.pdf?src-supplier=Digi-Key; ComponentLink8URL: https://datasheet.ciiva.com/16631/taj-16631673.pdf?src-supplier=Avnet+Europe; ComponentLink8Description: https://datasheet.ciiva.com/16631/taj-16631673.pdf?src-supplier=Avnet+Europe; ComponentLink9URL: https://datasheet.ciiva.com/6186/taj-6186956.pdf?src-supplier=Farnell; ComponentLink9Description: https://datasheet.ciiva.com/6186/taj-6186956.pdf?src-supplier=Farnell; ComponentLink10URL: https://datasheet.ciiva.com/14604/70001050-14604236.pdf?src-supplier=Allied+Electronics; ComponentLink10Description: https://datasheet.ciiva.com/14604/70001050-14604236.pdf?src-supplier=Allied+Electronics; ComponentLink11URL: https://datasheet.ciiva.com/12911/taj-27497-12911294.pdf?src-supplier=Mouser; ComponentLink11Description: https://datasheet.ciiva.com/12911/taj-27497-12911294.pdf?src-supplier=Mouser; ComponentLink12URL: https://datasheet.ciiva.com/14603/70001050-14603390.pdf?src-supplier=Allied+Electronics; ComponentLink12Description: https://datasheet.ciiva.com/14603/70001050-14603390.pdf?src-supplier=Allied+Electronics; ComponentLink13URL: https://datasheet.ciiva.com/7720/taj-7720831.pdf?src-supplier=Element14; ComponentLink13Description: https://datasheet.ciiva.com/7720/taj-7720831.pdf?src-supplier=Element14; Supplier Part Number 1: 478-3919-1-ND
footprint CAPMP7343X31M/2917 (Molded Capacitor, 2-Leads, Body 7,30x4,30mm, IPC Low Density)
pins: 1, 2

## 100U50V_CAPAE
designator C?
CAP ALUM 100UF 20% 16V RADIAL; Manufacturer: Rubycon; Manufacturer Part Number: 50TZV100M8X10.5; Voltage Rating: 50V; Life (Hours): 2000Hour; Ripple Current: 350mA; ESR (Equivalent Series Resistance): 340mR; Tolerance: 20%; Voltage: 16V; Voltage Rating (DC): 50V; Length: 11mm; Capacitance: 100uF; Diameter: 8mm; Max Operating Temperature: 105°C; Min Operating Temperature: -55°C; Ripple Current (AC): 350mA; Height: 10.5mm; Mount: Surface Mount
footprint CAPAE9083X105M/SMD8x10.5mm (Aluminum Electrolytic Capacitor, Body 8,30x8,30x10,50mm, IPC Low Density)
pins: 1, 2

## 100U100V_CAPAE
designator C?
CAP ALUM 100UF 20% 100V RADIAL; Manufacturer: Nichicon; Manufacturer Part Number: UHE2A101MPD; ESR (Equivalent Series Resistance): 840mR; Life (Hours): 7000Hour; Capacitance: 100uF; Case/Package: Radial; Tolerance: 20%; Voltage Rating: 100V; Voltage Rating (DC): 100V; Min Operating Temperature: -40°C; Max Operating Temperature: 105°C; Height: 25mm; Diameter: 10mm
footprint CAPAE10X25 (CAP ALUM RADIAL DIA 10MM HEIGHT 25MM PITCH 5MM)
pins: 1, 2

## 120U6.3V_CAPAE
designator C?
CAP ALUM POLY 120UF 20% 6.3V SMD; Manufacturer: Panasonic; Manufacturer Part Number: 6SVPC120MV; SMD: 1
footprint CAPAE5000X60M_SMD (Aluminum Electrolytic Capacitor, Body 5,30x5,30x6,00mm, IPC Low Density)
pins: 1, 2

## 150U100V_CAPAE
designator C?
CAP ALUM 150UF 20% 100V RADIAL; Manufacturer: Panasonic; Manufacturer Part Number: EEU-FS2A151L; Supplier 1: Digi-Key; RoHS: Yes; Stock 1: 2952; Pricing 1: 1=1,06000, 10=0,80500, 50=0,66880, 100=0,57590, 500=0,44590, 1000=0,38397, 2500=0,35919, 5000=0,34062 (USD); RoHS Compliant: Yes; Supplier Part Number 1: PCE5230-ND; Capacitance: 150uF; Voltage Rating: 100V
footprint CAPAE10X25 (CAP ALUM RADIAL DIA 10MM HEIGHT 25MM PITCH 5MM)
pins: 1, 2

## 220N50V_CAPC
designator C?
CAP CER 0.22UF 50V X7R 0603; Manufacturer: TDK Corporation; Manufacturer Part Number: C1608X7R1H224K080AB; SMD: 1
footprint CAPC1508X09M/0603 (Chip Capacitor, 2-Leads, Body 1,55x0,80mm, IPC Low Density)
pins: 1, 2

## 330U10V_CAPAE
designator C?
CAP ALUM 330UF 20% 10V RADIAL; Manufacturer: Wurth Electronics; Manufacturer Part Number: 860020273010; Polarity: Polar; Ripple Current: 205mA; Life (Hours): 2000Hour; Supplier 1: Digi-Key; RoHS: Yes; Category: Aluminum Electrolytic Capacitors; Stock 1: 1371; Pricing 1: 1=0,14000, 50=0,12200, 100=0,10600, 250=0,09400, 500=0,08200 (USD); Mount: Through Hole; Case/Package: Radial; Min Operating Temperature: -40°C; Max Operating Temperature: 105°C; Package Quantity: 1; Packaging: Tape and Reel; Capacitance: 330uF; Voltage Rating: 10V; Tolerance: 20%; Lead Pitch: 0.098inch; Height - Seated (Max): 0.492inch; RoHS Compliant: Yes; ComponentLink1URL: http://katalog.we-online.de/pbs/datasheet/860020273010.pdf?src-supplier=Digi-Key; ComponentLink1Description: http://katalog.we-online.de/pbs/datasheet/860020273010.pdf?src-supplier=Digi-Key; Supplier Part Number 1: 732-8912-1-ND
footprint CAPAE6.3X11 (CAP ALUM RADIAL DIA 6.3MM HEIGHT 11MM PITCH 2.5MM)
pins: 1, 2

## 330U50V_CAPAE
designator C?
CAP ALUM 330UF 20% 50V RADIAL; Manufacturer: Nichicon; Manufacturer Part Number: UVZ1H331MPD; Dielectric Material: Aluminium; Ripple Current: 410mA; Leakage Current: 495uA; Polarity: Polar; Life (Hours): 1000Hour; Dissipation Factor: 0.12%; Lead Diameter: 0.6mm; Supplier 1: Digi-Key; RoHS: Yes; Category: Aluminum Electrolytic Capacitors; Stock 1: 6311; Pricing 1: 1=0,58000, 10=0,41300, 50=0,31240, 100=0,27210, 500=0,20152, 1000=0,17129, 2500=0,16122, 5000=0,15114 (USD); Mount: Through Hole,PCB; Case/Package: Radial; Number of Pins: 2; Min Operating Temperature: -55°C; Max Operating Temperature: 105°C; Capacitance: 330uF; Package Quantity: 200; Packaging: Bulk; Tolerance: 20%; Voltage Rating: 50V; Voltage Rating (DC): 50V; Termination: Radial; Voltage: 50V; Series: VZ; Construction: RADIAL; Diameter: 10mm; Length: 16mm; Height: 16mm; Lead Pitch: 5mm; Height - Seated (Max): 0.63inch; Radiation Hardening: No; Lead Free: Lead Free; RoHS Compliant: Yes; ComponentLink1URL: https://datasheet.ciiva.com/30522/getdatasheetpartid-747894-30522162.pdf?src-supplier=Verical; ComponentLink1Description: https://datasheet.ciiva.com/30522/getdatasheetpartid-747894-30522162.pdf?src-supplier=Verical; ComponentLink2URL: https://datasheet.ciiva.com/115/e-vz-115337.pdf?src-supplier=Digi-Key; ComponentLink2Description: https://datasheet.ciiva.com/115/e-vz-115337.pdf?src-supplier=Digi-Key; Supplier Part Number 1: 493-1343-ND
footprint CAPAE10X16 (CAP ALUM RADIAL DIA 10MM HEIGHT 16MM PITCH 5MM)
pins: 1, 2

## 330U100V_CAPAE
designator C?
CAP ALUM 330UF 20% 100V RADIAL; Manufacturer: Nichicon; Manufacturer Part Number: UVR2A331MHD; Dielectric Material: Aluminium; Ripple Current: 760mA; Life (Hours): 2000Hour; Dissipation Factor: 0.08%; Leakage Current: 990uA; Lead/Base Style: Straight; Lead Diameter: 0.6mm; Supplier 1: Digi-Key; RoHS: Yes; Category: Aluminum Electrolytic Capacitors; Stock 1: 88308; Pricing 1: 1=1,23000, 10=0,97000, 50=0,84060, 100=0,72740, 500=0,54960, 1000=0,48494, 2500=0,45261, 5000=0,43644 (USD); Mount: Through Hole; Case/Package: Radial; Contact Plating: Tin,Matte; Min Operating Temperature: -40°C; Max Operating Temperature: 85°C; Capacitance: 330uF; Tolerance: 20%; Packaging: Bulk; Voltage Rating: 100V; Termination: Radial; Package Quantity: 100; Voltage Rating (DC): 100V; Series: VR; Diameter: 12.5mm; Length: 25mm; Height: 25mm; Lead Pitch: 5mm; Height - Seated (Max): 0.984inch; Radiation Hardening: No; Lead Free: Lead Free; RoHS Compliant: Yes; ComponentLink1URL: https://datasheet.ciiva.com/99/e-vr-99470.pdf?src-supplier=Digi-Key; ComponentLink1Description: https://datasheet.ciiva.com/99/e-vr-99470.pdf?src-supplier=Digi-Key; ComponentLink2URL: https://datasheet.ciiva.com/16366/e-vr-16366892.pdf?src-supplier=Future+Electronics; ComponentLink2Description: https://datasheet.ciiva.com/16366/e-vr-16366892.pdf?src-supplier=Future+Electronics; Supplier Part Number 1: 493-1150-ND
footprint CAPAE12.5X25 (CAP ALUM RADIAL DIA 12.5MM HEIGHT 25MM PITCH 5MM)
pins: 1, 2

## 470N400V_CAPRR
designator C?
CAP FILM 0.47UF 5% 400VDC RADIAL; Manufacturer: KEMET; Manufacturer Part Number: PHE450KD6470JR06L2; TH: 1
footprint CAPRR2200W80L2600T1050H1900
pins: 1, 2

## 470P50V_CAPC
designator C?
CAP CER 470PF 50V X7R 0603; Manufacturer: Samsung Electro-Mechanics; Manufacturer Part Number: CL10B471KB8NFNC; SMD: 1
footprint CAPC1508X09M/0603 (Chip Capacitor, 2-Leads, Body 1,55x0,80mm, IPC Low Density)
pins: 1, 2

## 750P50V_CAPC
designator C?
CAP CER 750PF 50V C0G/NP0 0805; Manufacturer: Kemet; Manufacturer Part Number: C0805C751J5GACTU; SMD: 1
footprint CAPC2012X14M/0805 (Chip Capacitor, 2-Leads, Body 2,00x1,25mm, IPC Low Density)
pins: 1, 2

## 1000P220VAC
designator C?
Cap Ceramic Disc 0.001uF 250VAC 20% Thru-Hole Ammo Pack; Manufacturer: Murata; Manufacturer Part Number: DE2E3SA102MN3AT02F; Supplier 1: Digi-Key; Category: Ceramic Capacitors; Stock 1: 3288; Pricing 1: 1=0,37000, 10=0,25400, 50=0,16940, 100=0,14400, 500=0,10164 (USD); RoHS Compliant: Yes; ComponentLink1URL: http://datasheet.octopart.com/DE2E3SA102MN3AT02F-Murata-datasheet-141260472.pdf?src-supplier=Geoflip; ComponentLink1Description: http://datasheet.octopart.com/DE2E3SA102MN3AT02F-Murata-datasheet-141260472.pdf?src-supplier=Geoflip; ComponentLink2URL: http://datasheet.octopart.com/DE2E3SA102MN3AT02F-Murata-datasheet-142495466.pdf?src-supplier=Ciiva+Crawler; ComponentLink2Description: http://datasheet.octopart.com/DE2E3SA102MN3AT02F-Murata-datasheet-142495466.pdf?src-supplier=Ciiva+Crawler; Supplier Part Number 1: 490-16235-1-ND
footprint DE2E3SA102MN3AT02F (CAP CER 1000PF 250V RADIAL)
pins: 1, 2

## 1000P2000V_CAPC
designator C?
CAP CER 1000PF 2KV X7R 1206; Manufacturer: KEMET; Manufacturer Part Number: C1206C102KGRACTU; SMD: 1
footprint CAPC3216X14N/1206 (Chip Capacitor, 2-Leads, Body 3,20x1,60mm, IPC Medium Density)
pins: 1, 2

## 1000U80V_CAPAE
designator C?
CAP ALUM 1000UF 20% 80V RADIAL; Manufacturer: United Chemi-Con; Manufacturer Part Number: EKZE800ELL102ML40S; TH: 1
footprint CAPAE1600X4000 (Aluminum Electrolytic Capacitor, Body 16,00x40,00mm, Pitch 7.5mm, IPC Medium Density (Panasonic))
pins: 1, 2

## 2200N100V_CAPC
designator C?
CAP CER 2.2UF 100V X7R 1210; Manufacturer: TDK; Manufacturer Part Number: C3225X7R2A225K; SMD: 1
pins: 1, 2

## CAP_CER
designator C?
pins: 1, 2